# Altium schematic symbol library Inductors.SchLib: 5 symbols
Pins are listed as number, name and electrical type; pins without a type are passive.

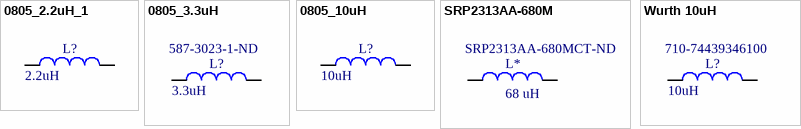
[diagram p0: symbols 0805_2.2uH_1 to Wurth 10uH]

## 0805_2.2uH_1
designator L?, comment 2.2uH
2.2uH 260mA 130mR 0805; Supplier 1: Digi-Key; Supplier Part Number 1: 587-2043-1-ND; Value: 2.2uH
footprint RES0805R (resistor 0805 reflow soldering)
pins: 1, 2

## 0805_3.3uH
designator L?, comment Supplier Part Number 1: 587-3023-1-ND  (hidden comment: 3.3uH)
3.3uH 440mA 650mR 0805; Supplier 1: Digi-Key; Value: 3.3uH
footprint BRL2012T3R3M_0805 (Chip Inductor, 2-Leads, Body 2.00x1.25mm, IPC High Density)
pins: 1, 2

## 0805_10uH
designator L?, comment 10uH
10uH 150mA 360mR 0805; Supplier 1: Digi-Key; Supplier Part Number 1: 587-2045-1-ND; Value: 10uH
footprint RES0805R (resistor 0805 reflow soldering)
pins: 1, 2

## SRP2313AA-680M
designator L*, comment 68 uH  Supplier Part Number 1: SRP2313AA-680MCT-ND
68 µH Shielded Wirewound Inductor 12 A 29.5mOhm Max Nonstandard -; Saturation Current: 9 A; DC Resistance (DCR): 29.5 mOhm @ 100 kHz; Q: 20 @ 100 kHz; Self-Resonant Freq.: 3 MHz; Inductance: 68 uH; Supplier 1: Digi-Key
footprint SRP2313AA-680M (FIXED IND 68UH 12A 29.5 mOhm SMD)
pins: 1, 2

## Wurth 10uH
designator L?, comment Supplier Part Number 1: 710-74439346100  (hidden comment: 10uH)
10uH 5A 26.5 SMT; Supplier 1: Mouser; Value: 10uH
footprint PCBComponent_1
pins: 1, 2